# Altium footprint library Secure_Chip.PcbLib: 1 footprints
Each footprint in its own frame and in the unit in brackets; x right, y up, seen from the top. Pads: shape width x height; smd on the part's side, far side on the other; paste and mask are expansions set on the pad; w line width, h text height; cw(c..) or ccw(c..) is an arc to the next point about the centre after c.
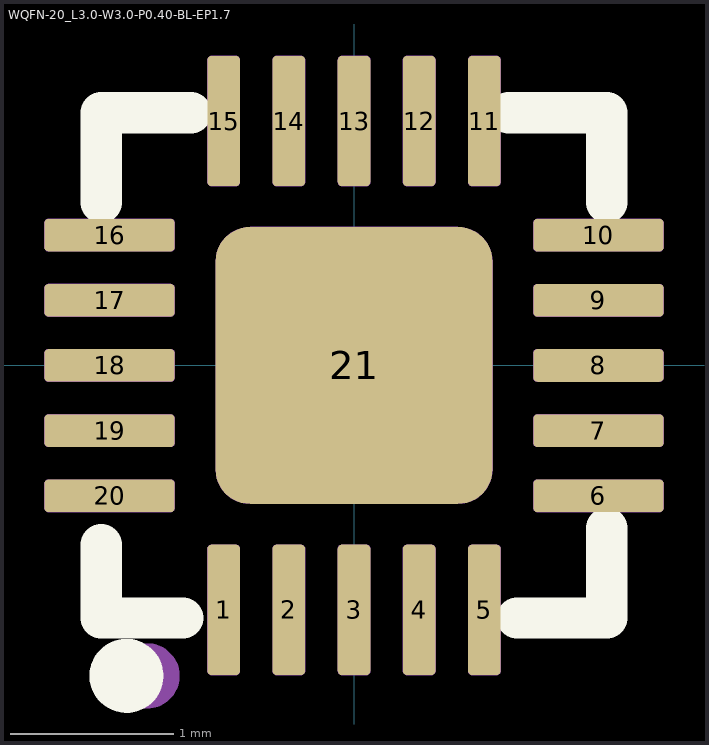
[diagram p0: the footprint, top view; thin cyan lines are the x and y axes]

## WQFN-20_L3.0-W3.0-P0.40-BL-EP1.7 [mm] "WQFN-20-EP(3x3); QFN-20-EP(3x3); WQFN-20; WQFN-20_L3.0-W3.0-P0.40-BL-EP1.7; WQFN-20_L3.0-W3.0-P0.40-BL-EP1; WQEN20; QFN-20(3x3); WBQFN-20-EP(3x3); QFN-20; WQFN-20L(3x3)"
height -2909.208
pads (21):
  rrect25% 0.2x0.8 smd mask+0.05: 1(-0.8,-1.5) 2(-0.4,-1.5) 3(0,-1.5) 4(0.4,-1.5) 5(0.8,-1.5) 11(0.8,1.5) 12(0.4,1.5) 13(0,1.5) 14(-0.4,1.5) 15(-0.8,1.5)
  rrect25% 0.8x0.2 smd mask+0.05: 6(1.5,-0.8) 7(1.5,-0.4) 8(1.5,0) 9(1.5,0.4) 10(1.5,0.8) 16(-1.5,0.8) 17(-1.5,0.4) 18(-1.5,0) 19(-1.5,-0.4) 20(-1.5,-0.8)
  rrect25% 1.7x1.7 smd mask+0.05: 21(0,0)
Top Overlay:
  circle w0.254: c-1.397,-1.905 r0.1
  region: -1.44,-1.5 -1.441,-1.488 -1.445,-1.477 -1.45,-1.467 -1.458,-1.458 -1.467,-1.45 -1.477,-1.445 -1.488,-1.441 -1.5,-1.44 -1.512,-1.441 -1.523,-1.445 -1.533,-1.45 -1.542,-1.458 -1.55,-1.467 -1.555,-1.477 -1.559,-1.488 -1.56,-1.5 -1.559,-1.512 -1.555,-1.523 -1.55,-1.533 -1.542,-1.542 -1.533,-1.55 -1.523,-1.555 -1.512,-1.559 -1.5,-1.56 -1.488,-1.559 -1.477,-1.555 -1.467,-1.55 -1.458,-1.542 -1.45,-1.533 -1.445,-1.523 -1.441,-1.512
  lines w0.254: -1.55,-1.1 -1.55,-1.55 -1.05,-1.55 ; -1.55,1 -1.55,1.55 -1,1.55 ; 0.95,1.55 1.55,1.55 1.55,1 ; 1,-1.55 1.55,-1.55 1.55,-1
Mechanical 2:
  circle w0.2: c-1.27,-1.905 r0.1
Mechanical 9:
  drawing of 21 lines, arcs and shapes, not listed
3D body "WQFN-20_L3.0-W3.0-H0.8-P0.40-TL-EP1.7.step": height 0.8, standoff 0, extent -1.5,-1.5 1.5,1.5